# Altium footprint library 691 230 310 0xx.PcbLib: 2 footprints
Each footprint in its own frame and in the unit in brackets; x right, y up, seen from the top. Pads: shape width x height; smd on the part's side, far side on the other; paste and mask are expansions set on the pad; w line width, h text height; cw(c..) or ccw(c..) is an arc to the next point about the centre after c.
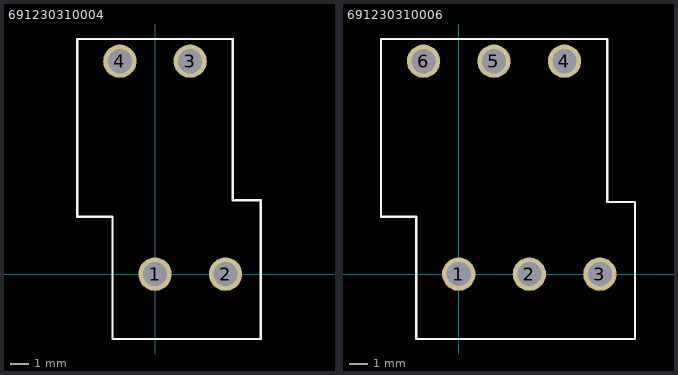
[diagram p0: the footprints below, top view; thin cyan lines are the x and y axes]

## 691230310004 [mm] "3,81mm - modular - 2 rows - Right - horizontal entry with rising cage clamp - 04p"
height 16.2
pads (4):
  round 1.8 hole 1.3: 1(0,0) 2(3.81,0) 3(1.9,11.5) 4(-1.9,11.5)
Top Overlay:
  lines w0.127: -4.2,3.1 -4.2,12.7 4.2,12.7 4.2,4 5.71,4 5.71,-3.5 -2.3,-3.5 -2.3,3.1 -4.2,3.1
3D body: height 16.45, standoff -3.55, extent -4.21,-3.45 5.675,12.65

## 691230310006 [mm] "3,81mm - modular - 2 rows - Right - horizontal entry with rising cage clamp - 06p"
height 16.2
pads (6):
  round 1.8 hole 1.3: 1(0,0) 2(3.81,0) 3(7.62,0) 4(5.71,11.5) 5(1.9,11.5) 6(-1.9,11.5)
Top Overlay:
  lines w0.127: -2.305,-3.5 -2.3,-3.5 ; -2.3,-3.5 -2.3,3.1 -4.2,3.1 -4.2,12.7 8.01,12.7 8.01,3.9 9.52,3.9 9.52,-3.5 -2.3,-3.5
3D body: height 16.45, standoff -3.55, extent -4.215,-3.45 9.48,12.65